# Altium schematic symbol library RK1631110TWA.SchLib: 1 symbol
Pins are listed as number, name and electrical type; pins without a type are passive.

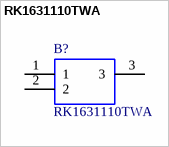
[diagram p0: symbol RK1631110TWA]

## RK1631110TWA
designator B?
Carbon Film Potentiometer RK163 Series with a 6 mm Dia. Shaft 10k 20% 0.1W; Manufacturer_Name: ALPS; Manufacturer_Part_Number: RK1631110TWA; RS Part Number: 1726361; RS Price/Stock: http://uk.rs-online.com/web/p/products/1726361; Arrow Part Number: RK1631110TWA; Arrow Price/Stock: http://uk.rs-online.com/web/p/products/1726361; Datasheet Link: http://docs-europe.electrocomponents.com/webdocs/135d/0900766b8135daa5.pdf
footprint RK1631110TWA
pins: 1, 2, 3